# Altium schematic symbol library oscillators.SchLib: 1 symbol
Pins are listed as number, name and electrical type; pins without a type are passive.

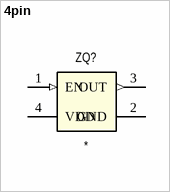
[diagram p0: symbol 4pin]

## 4pin
designator ZQ?
pins: 1 EN (in), 2 GND (power), 3 OUT (out), 4 VDD (power)